# EAGLE library part PSTA-14 (library con-phoenix-350)
PSTA 1,5/XX-3,5 3.5 MM Terminal Block
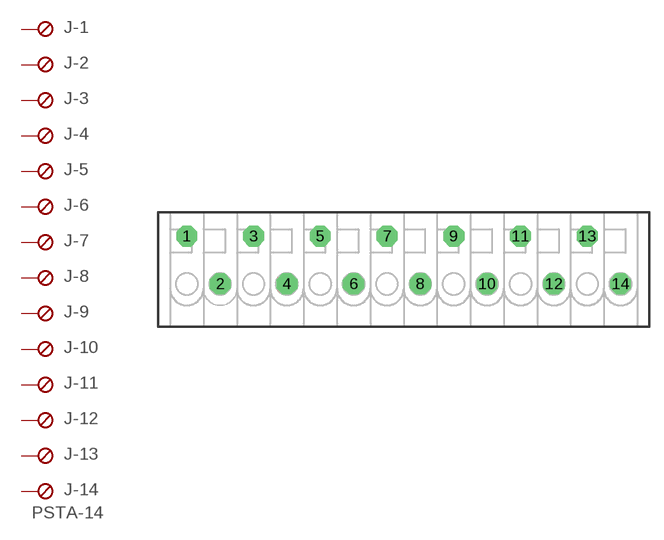
[diagram p18: symbol with the pads of PSTA-14; footprint PSTA-14]

Designator prefix J; gates -1=SKB -2=SKB -3=SKB -4=SKB -5=SKB -6=SKB -7=SKB -8=SKB -9=SKB -10=SKB -11=SKB -12=SKB -13=SKB -14=SKBU+V

## PSTA-14  [PSTA-14]
1  -1:S  pas
2  -2:S  pas
3  -3:S  pas
4  -4:S  pas
5  -5:S  pas
6  -6:S  pas
7  -7:S  pas
8  -8:S  pas
9  -9:S  pas
10  -10:S  pas
11  -11:S  pas
12  -12:S  pas
13  -13:S  pas
14  -14:S  pas

## Footprint PSTA-14 (pad centres in mm)
PTSA 1,5/14-3,5-Z 3.5mm
drill 1.016 pad 2.184 octagon: 1 -22.75,5; 2 -19.25,0; 3 -15.75,5; 4 -12.25,0; 5 -8.75,5; 6 -5.25,0; 7 -1.75,5; 8 1.75,0; 9 5.25,5; 10 8.75,0; 11 12.25,5; 12 15.75,0; 13 19.25,5; 14 22.75,0